# Altium schematic symbol library SCH_Power.SchLib: 39 symbols
Pins are listed as number, name and electrical type; pins without a type are passive.

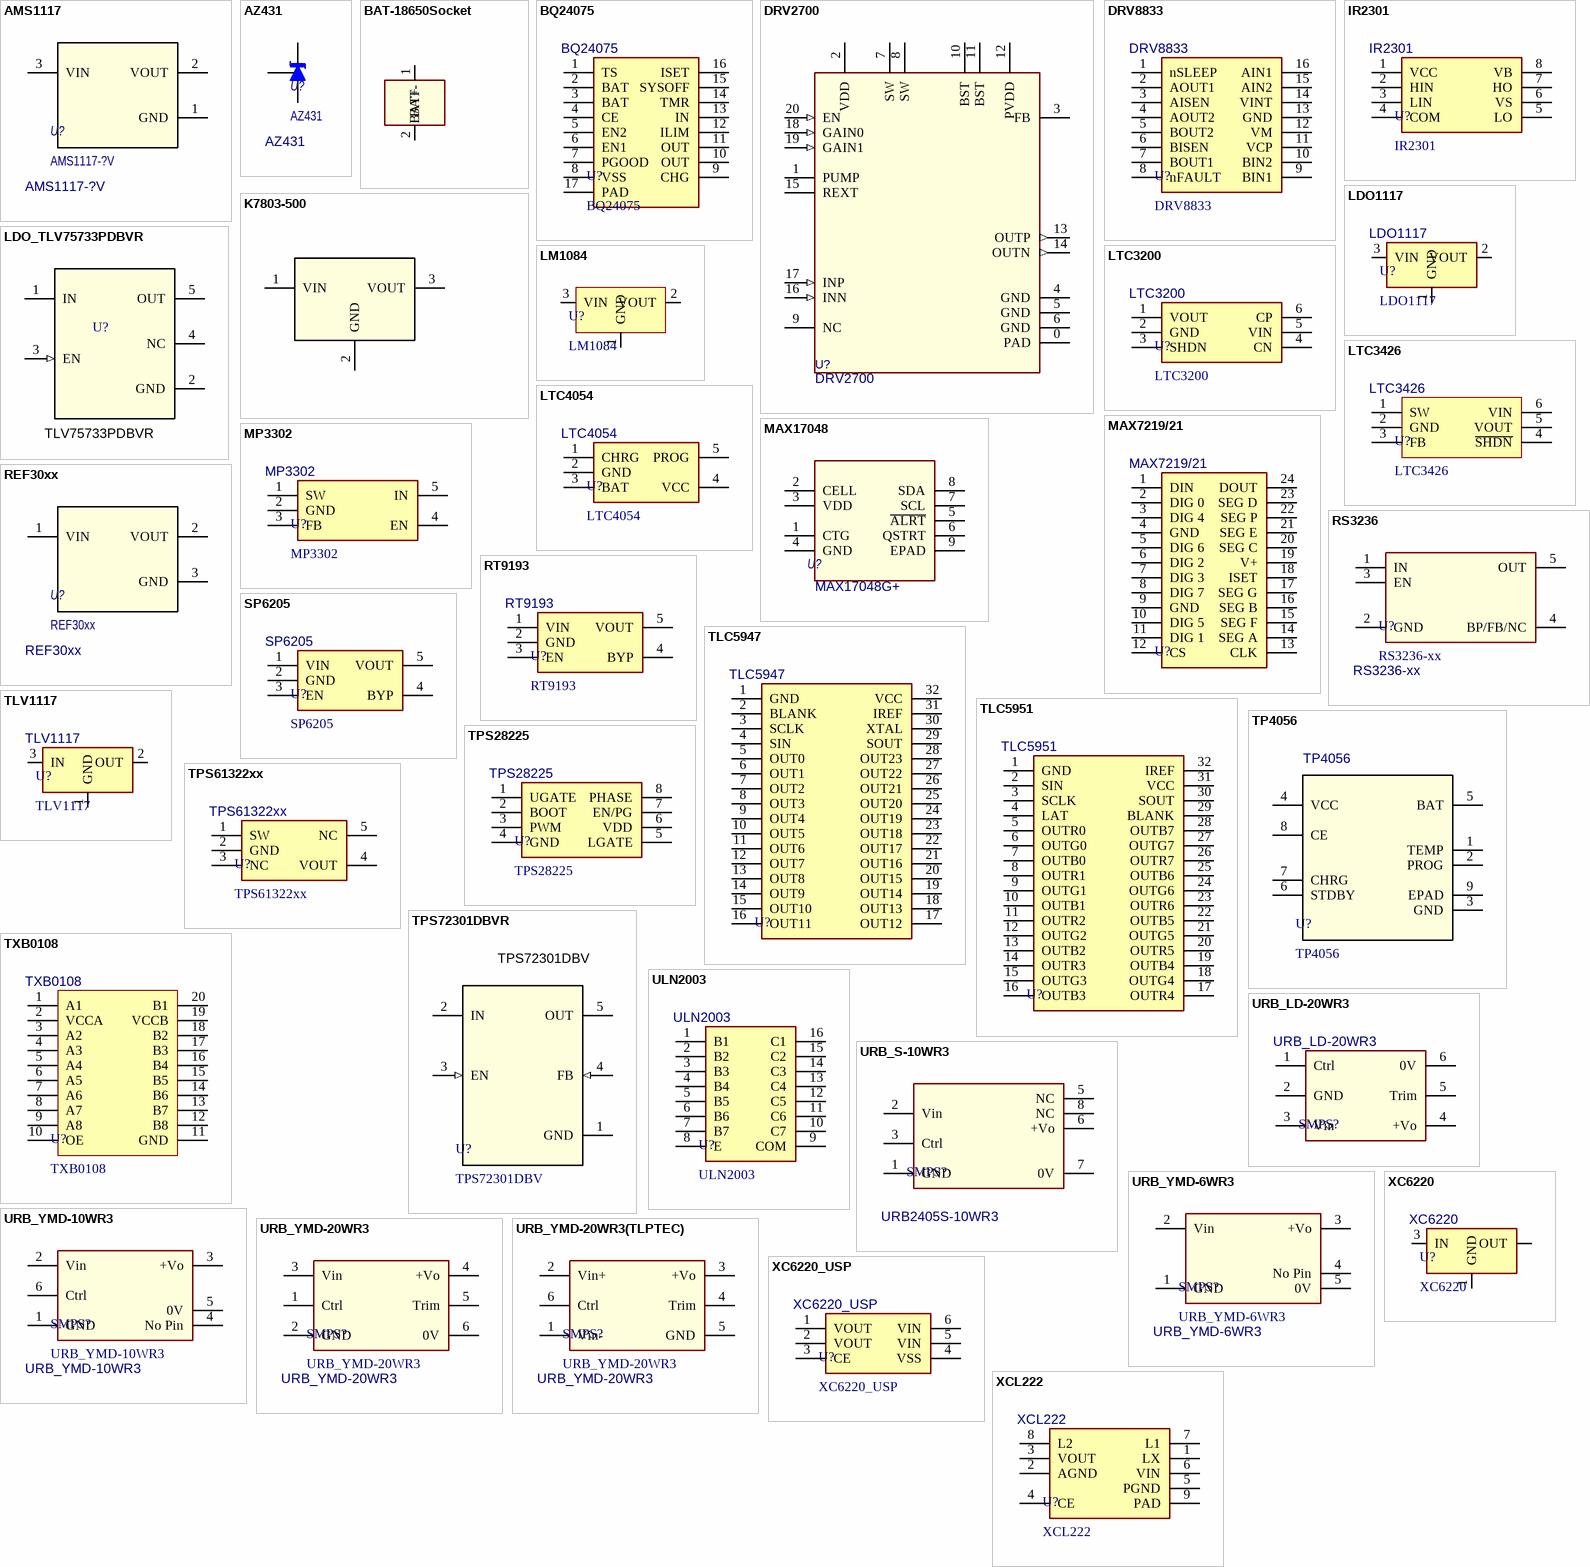
[diagram p0: symbols AMS1117 to XCL222]

## AMS1117
designator U?, comment AMS1117-?V
LDO; MFR: Mfr?; Package: SOT-223-3; PartNumber: AMS1117-?V
footprint SOT223-3
pins: 1 GND, 2 VOUT, 3 VIN

## AZ431
designator U?
Voltage reference source; MFR: TI; Package: SOT-23; PartNumber: AZ431
footprint SOT23-3
pins: 1 REF, 2 CATHODE, 3 ANODE

## BAT-18650Socket
designator BAT?, comment 18650  (value not drawn)
18650电池槽; PartNumber: 18650; MFR: *; Package: 18650
footprint BH-18650-B1BA002 (18650电池座)
pins: 1 BAT+, 2 BAT-

## BQ24075
designator U?
Power; Type: QFN16 P0.5; PartNumber: BQ24075
footprint QFN_P0.5_PAD_16
pins: 1 TS, 2 BAT, 3 BAT, 4 CE, 5 EN2, 6 EN1, 7 PGOOD, 8 VSS, 9 CHG, 10 OUT, 11 OUT, 12 ILIM, 13 IN, 14 TMR, 15 SYSOFF, 16 ISET, 17 PAD

## DRV2700
designator U?
MFR: TI; Package: QFN20-EP(4x4); PartNumber: DRV2700
footprint QFN_P0.5_20_EP_4x4
pins: 0 PAD, 1 PUMP, 2 VDD, 3 FB, 4 GND (power), 5 GND (power), 6 GND (power), 7 SW (oc), 8 SW (oc), 9 NC, 10 BST (power), 11 BST (power), 12 PVDD (power), 13 OUTP (out), 14 OUTN (out), 15 REXT, 16 INN (in), 17 INP (in), 18 GAIN0 (in), 19 GAIN1 (in), 20 EN (in)

## DRV8833
designator U?
H-Bridge; Package: *; PartNumber: DRV8833
footprint TSSOP_E170_P0.65_16
pins: 1 nSLEEP, 2 AOUT1, 3 AISEN, 4 AOUT2, 5 BOUT2, 6 BISEN, 7 BOUT1, 8 nFAULT, 9 BIN1, 10 BIN2, 11 VCP, 12 VM, 13 GND, 14 VINT, 15 AIN2, 16 AIN1

## IR2301
designator U?
MOSFET Driver; Package: *; PartNumber: IR2301
footprint SOP_E150_8
pins: 1 VCC, 2 HIN, 3 LIN, 4 COM, 5 LO, 6 VS, 7 HO, 8 VB

## K7803-500
designator U?, comment K7803-500R3
3.3V DCDC Module; MFR: MORNSUN; Package: SIP3; PartNumber: K7803-500R3
footprint K7803_SIP_11.6x7.6
pins: 1 VIN, 2 GND, 3 VOUT

## LDO1117
designator U?
Power; Package: SOT223-3; PartNumber: LDO1117
footprint SOT223-3
footprint SOT89-3
pins: 1 GND, 2 VOUT, 3 VIN

## LDO_TLV75733PDBVR
designator U?, comment TLV75733PDBVR
LDO; MFR: Texas Instruments; Package: SOT23-5; PartNumber: TLV75733PDBVR
footprint SOT23-5
pins: 1 IN (power), 2 GND (power), 3 EN (in), 4 NC, 5 OUT (power)

## LM1084
designator U?
Power; PartNumber: LM1084
footprint TO-263-3
pins: 1 GND, 2 VOUT (power), 3 VIN

## LTC3200
designator U?
Power; Package: SOT23-6; PartNumber: LTC3200
footprint SOT23-6
pins: 1 VOUT, 2 GND, 3 SHDN, 4 CN, 5 VIN, 6 CP

## LTC3426
designator U?
Power; Package: SOT23-6; PartNumber: LTC3426
footprint SOT23-6
pins: 1 SW, 2 GND, 3 FB, 4 ~{SHDN}, 5 VOUT, 6 VIN

## LTC4054
designator U?
Battery Charger; Package: SOT23-5; PartNumber: LTC4054
footprint SOT23-5
pins: 1 CHRG, 2 GND, 3 BAT, 4 VCC, 5 PROG

## MAX7219/21
designator U?
Driver; PartNumber: MAX7219/21
footprint SOP_E300_24
pins: 1 DIN, 2 DIG 0, 3 DIG 4, 4 GND, 5 DIG 6, 6 DIG 2, 7 DIG 3, 8 DIG 7, 9 GND, 10 DIG 5, 11 DIG 1, 12 CS, 13 CLK, 14 SEG A, 15 SEG F, 16 SEG B, 17 SEG G, 18 ISET, 19 V+, 20 SEG C, 21 SEG E, 22 SEG P, 23 SEG D, 24 DOUT

## MAX17048
designator U?, comment MAX17048G+
Gauge; MFR: ADI/MAXIM; Package: TDFN-8-EP; PartNumber: MAX17048G+
footprint TDFN_8_EP
pins: 1 CTG, 2 CELL, 3 VDD, 4 GND, 5 ~{ALRT}, 6 QSTRT, 7 SCL, 8 SDA, 9 EPAD

## MP3302
designator U?
WLED Driver; PartNumber: MP3302
footprint SOT23-5
pins: 1 SW, 2 GND, 3 FB, 4 EN, 5 IN

## REF30xx
designator U?
Voltage reference source; MFR: TI; Package: SOT-23; PartNumber: REF30xx
footprint SOT23-3
pins: 1 VIN, 2 VOUT, 3 GND

## RS3236
designator U?, comment RS3236-xx
RUNIC LDO 500mA; MFR: RUNIC; Package: SOT23-5; PartNumber: RS3236-xx
footprint SOT23-5
pins: 1 IN, 2 GND, 3 EN, 4 BP/FB/NC, 5 OUT

## RT9193
designator U?
Power; Package: SOT23-5; PartNumber: RT9193
footprint SOT23-5
pins: 1 VIN, 2 GND, 3 EN (power), 4 BYP, 5 VOUT

## SP6205
designator U?
Power; Package: SOT23-5; PartNumber: SP6205
footprint SOT23-5
pins: 1 VIN, 2 GND, 3 EN (power), 4 BYP, 5 VOUT

## TLC5947
designator U?
LED Driver; Package: *; PartNumber: TLC5947
footprint TSSOP_E250H_P0.65_32
pins: 1 GND, 2 BLANK, 3 SCLK, 4 SIN, 5 OUT0, 6 OUT1, 7 OUT2, 8 OUT3, 9 OUT4, 10 OUT5, 11 OUT6, 12 OUT7, 13 OUT8, 14 OUT9, 15 OUT10, 16 OUT11, 17 OUT12, 18 OUT13, 19 OUT14, 20 OUT15, 21 OUT16, 22 OUT17, 23 OUT18, 24 OUT19, 25 OUT20, 26 OUT21, 27 OUT22, 28 OUT23, 29 SOUT, 30 XTAL, 31 IREF, 32 VCC

## TLC5951
designator U?
LED Driver; Package: *; PartNumber: TLC5951
footprint TSSOP_E250H_P0.65_32
pins: 1 GND, 2 SIN, 3 SCLK, 4 LAT, 5 OUTR0, 6 OUTG0, 7 OUTB0, 8 OUTR1, 9 OUTG1, 10 OUTB1, 11 OUTR2, 12 OUTG2, 13 OUTB2, 14 OUTR3, 15 OUTG3, 16 OUTB3, 17 OUTR4, 18 OUTG4, 19 OUTB4, 20 OUTR5, 21 OUTG5, 22 OUTB5, 23 OUTR6, 24 OUTG6, 25 OUTB6, 26 OUTR7, 27 OUTG7, 28 OUTB7, 29 BLANK, 30 SOUT, 31 VCC, 32 IREF

## TLV1117
designator U?
Power; Package: *; PartNumber: TLV1117
footprint SOT223-3
pins: 1 GND (power), 2 OUT (power), 3 IN (power)

## TP4056
designator U?
Li Battary Charger; Package: SOT223-3; PartNumber: TP4056
footprint SOP_E150_8_EPAD
pins: 1 TEMP, 2 PROG, 3 GND (power), 4 VCC (power), 5 BAT, 6 STDBY, 7 CHRG, 8 CE, 9 EPAD (power)

## TPS28225
designator U?
MOSFET Driver; Package: *; PartNumber: TPS28225
footprint SOP_E150_8
pins: 1 UGATE, 2 BOOT, 3 PWM, 4 GND, 5 LGATE, 6 VDD, 7 EN/PG, 8 PHASE

## TPS61322xx
designator U?
Power; Package: SOT23-5; PartNumber: TPS61322xx
footprint SOT23-5
pins: 1 SW, 2 GND, 3 NC, 4 VOUT, 5 NC

## TPS72301DBVR
designator U?, comment TPS72301DBV
LDO NEG; MFR: Texas Instruments; Package: SOT23-5(DBV0005A); PartNumber: TPS72301DBV
footprint SOT23-5
pins: 1 GND (power), 2 IN (power), 3 EN (in), 4 FB (in), 5 OUT (power)

## TXB0108
designator U?
VoltageLevel; Package: *; PartNumber: TXB0108
footprint TSSOP_E170_P0.65_20
pins: 1 A1, 2 VCCA, 3 A2, 4 A3, 5 A4, 6 A5, 7 A6, 8 A7, 9 A8, 10 OE, 11 GND, 12 B8, 13 B7, 14 B6, 15 B5, 16 B4, 17 B3, 18 B2, 19 VCCB, 20 B1

## ULN2003
designator U?
Darlington Transistor; Package: *; PartNumber: ULN2003
footprint SOP_E150_16
footprint DIP_300_16
pins: 1 B1, 2 B2, 3 B3, 4 B4, 5 B5, 6 B6, 7 B7, 8 E, 9 COM, 10 C7, 11 C6, 12 C5, 13 C4, 14 C3, 15 C2, 16 C1

## URB_LD-20WR3
designator SMPS?
MORNSUN; Package: DIP; PartNumber: URB_LD-20WR3
footprint URB_LD-20WR3
pins: 1 Ctrl, 2 GND, 3 Vin, 4 +Vo, 5 Trim, 6 0V

## URB_S-10WR3
designator SMPS?, comment URB2405S-10WR3
MORNSUN DCDC; MFR: MORNSUN; Package: SIP8; PartNumber: URB2405S-10WR3
footprint URB_S-10WR3
pins: 1 GND, 2 Vin, 3 Ctrl, 5 NC, 6 +Vo, 7 0V, 8 NC

## URB_YMD-6WR3
designator SMPS?
MORNSUN; MFR: MORNSUN; Package: DIP; PartNumber: URB_YMD-6WR3
footprint URB_YMD-6WR3
pins: 1 GND, 2 Vin, 3 +Vo, 4 No Pin, 5 0V

## URB_YMD-10WR3
designator SMPS?
MORNSUN; MFR: MORNSUN; Package: DIP; PartNumber: URB_YMD-10WR3
footprint URB_YMD-10WR3
pins: 1 GND, 2 Vin, 3 +Vo, 4 No Pin, 5 0V, 6 Ctrl

## URB_YMD-20WR3
designator SMPS?
MORNSUN; MFR: MORNSUN; Package: DIP; PartNumber: URB_YMD-20WR3
footprint URB_YMD-20WR3
pins: 1 Ctrl, 2 GND, 3 Vin, 4 +Vo, 5 Trim, 6 0V

## URB_YMD-20WR3(TLPTEC)
designator SMPS?, comment URB_YMD-20WR3
TLPTEC; MFR: YLPTEC; Package: DIP; PartNumber: URB_YMD-20WR3
footprint URB_YMD-20WR3_TLPTEC
pins: 1 Vin-, 2 Vin+, 3 +Vo, 4 Trim, 5 GND, 6 Ctrl

## XC6220
designator U?
Power; Package: *; PartNumber: XC6220
footprint SOT89-3
pins: 1 GND (power), 2 OUT (power), 3 IN (power)

## XC6220_USP
designator U?
Power; Package: *; PartNumber: XC6220_USP
footprint SON_P0.5H_6
pins: 1 VOUT, 2 VOUT, 3 CE, 4 VSS, 5 VIN, 6 VIN, 7

## XCL222
designator U?
DC-DC Converter; Package: SMD8_P0.55; PartNumber: XCL222
footprint SMD_E25x20_P0.55_8
pins: 1 LX, 2 AGND, 3 VOUT, 4 CE, 5 PGND, 6 VIN, 7 L1, 8 L2, 9 PAD